# EAGLE library part TE-RJ-45-JACK (library custom-ds)
TE RJ-45 Jack Mfg Part Number: 5406299-1 Digikey Part Number: A97706-ND
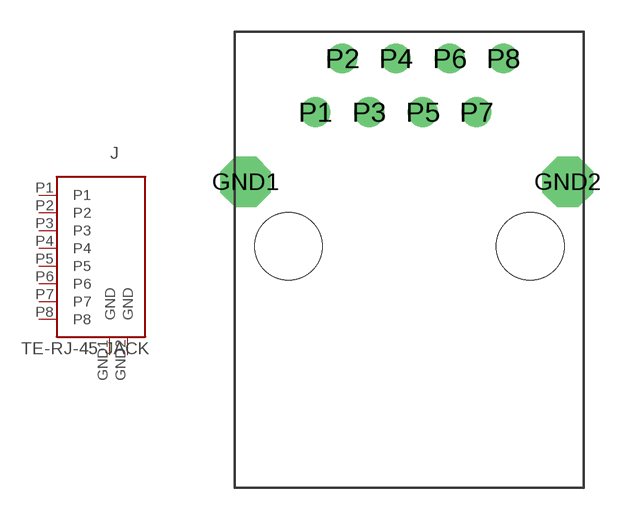
[diagram p3: symbol with the pads of TE-RJ-45-JACK; footprint TE-RJ-45-JACK]

Designator prefix J

## TE-RJ-45-JACK  [TE-RJ-45-JACK]
GND1  GND  sup
GND2  GND  sup
P1  P1
P2  P2
P3  P3
P4  P4
P5  P5
P6  P6
P7  P7
P8  P8

## Footprint TE-RJ-45-JACK (pad centres in mm)
drill 1.6 octagon: GND1 -8.382,3.048; GND2 6.858,3.048
drill 0.9: P1 -5.08,6.35; P2 -3.81,8.89; P3 -2.54,6.35; P4 -1.27,8.89; P5 0,6.35; P6 1.27,8.89; P7 2.54,6.35; P8 3.81,8.89
hole 3.2 at -6.35,0
hole 3.2 at 5.08,0